# Altium footprint library All.PcbLib: 121 footprints (part 1 of 8)
Each footprint in its own frame and in the unit in brackets; x right, y up, seen from the top. Pads: shape width x height; smd on the part's side, far side on the other; paste and mask are expansions set on the pad; w line width, h text height; cw(c..) or ccw(c..) is an arc to the next point about the centre after c.
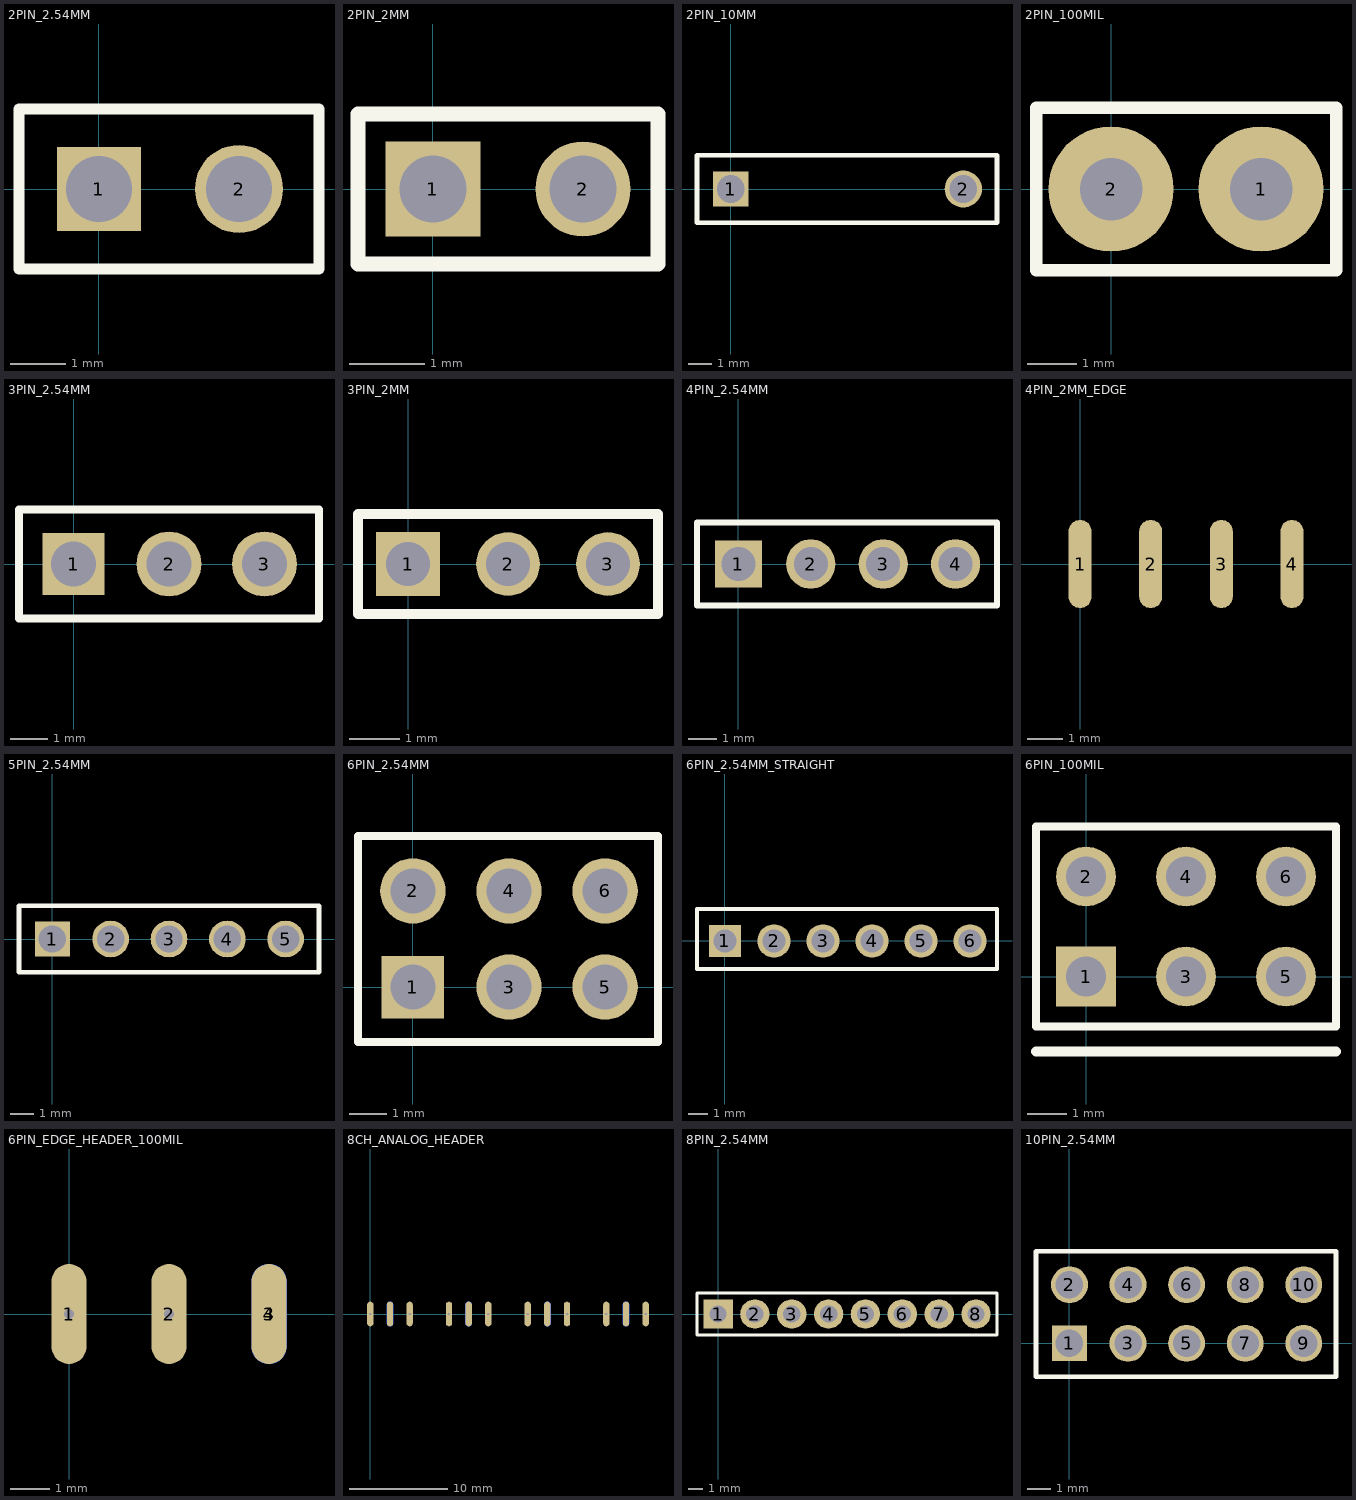
[diagram p0: the footprints below, top view; thin cyan lines are the x and y axes]

## 2PIN_2.54MM [mil]
pads (2):
  rect 60x60 hole 47: 1(0,0)
  round 63 hole 47: 2(100,0)
Top Overlay:
  lines w8: -57.13,-57.13 157.13,-57.13 157.13,57.13 -57.13,57.13 -57.13,-57.13

## 2PIN_2MM [mil]
pads (2):
  rect 50x50 hole 35: 1(0,0)
  round 50 hole 35: 2(78.74,0)
Top Overlay:
  lines w8: -39.37,-39.37 -39.37,39.37 118.11,39.37 118.11,-39.37 -39.37,-39.37

## 2PIN_10MM [mil]
pads (2):
  rect 60x60 hole 47: 1(0,0)
  round 63 hole 47: 2(393,0)
Top Overlay:
  lines w8: -57.13,-57.13 450,-57.13 450,57.13 -57.13,57.13 -57.13,-57.13

## 2PIN_100MIL [mil]
pads (2):
  round 100 hole 50: 1(120,0) 2(0,0)
Top Overlay:
  lines w10: -60,-65 -60,65 180,65 180,-65 -60,-65

## 3PIN_2.54MM [mil]
pads (3):
  rect 65x65 hole 47: 1(0,0)
  round 68 hole 47: 2(100,0) 3(200,0)
Top Overlay:
  lines w8: -57.13,-57.13 257.13,-57.13 257.13,57.13 -57.13,57.13 -57.13,-57.13

## 3PIN_2MM [mil]
pads (3):
  rect 50x50 hole 35: 1(0,0)
  round 50 hole 35: 2(78.74,0) 3(157.48,0)
Top Overlay:
  lines w8: -39.37,-39.37 -39.37,39.37 196.85,39.37 196.85,-39.37 -39.37,-39.37

## 4PIN_2.54MM [mil]
pads (4):
  rect 65x65 hole 47: 1(0,0)
  round 68 hole 47: 2(100,0) 3(200,0) 4(300,0)
Top Overlay:
  lines w8: -57.13,-57.13 -57.13,57.13 357.13,57.13 357.13,-57.13 -57.13,-57.13

## 4PIN_2MM_EDGE [mm]
pads (4):
  oval 0.65x2.5 smd: 1(0,0) 2(2,0) 3(4,0) 4(6,0)

## 5PIN_2.54MM [mil]
pads (5):
  rect 60x60 hole 47: 1(0,0)
  round 63 hole 47: 2(100,0) 3(200,0) 4(300,0) 5(400,0)
Top Overlay:
  lines w8: -57.13,-57.13 -57.13,57.13 457.13,57.13 457.13,-57.13 -57.13,-57.13

## 6PIN_2.54MM [mil]
pads (6):
  rect 65x65 hole 47: 1(0,0)
  round 68 hole 47: 2(0,100) 3(100,0) 4(100,100) 5(200,0) 6(200,100)
Top Overlay:
  lines w8: -57.13,-57.13 -57.13,157.13 255,157.13 255,-57.13 -57.13,-57.13

## 6PIN_2.54MM_STRAIGHT [mil]
pads (6):
  rect 65x65 hole 47: 1(0,0)
  round 68 hole 47: 2(100,0) 3(200,0) 4(300,0) 5(400,0) 6(500,0)
Top Overlay:
  lines w8: -57.13,-57.13 555,-57.13 555,65 -57.13,65 -57.13,-57.13

## 6PIN_100MIL [mil]
pads (6):
  rect 60x60 hole 40: 1(0,0)
  round 60 hole 40: 2(0,100) 3(100,0) 4(100,100) 5(200,0) 6(200,100)
Top Overlay:
  lines w8: -50,-50 -50,150 250,150 250,-50 -50,-50
  lines w10: -50,-75 250,-75

## 6PIN_EDGE_HEADER_100MIL [mil]
pads (4):
  oval 35x100 hole 10: 1(0,0) 2(100,0)
  oval 35x100 smd: 3(200,0)
  oval 35x100 smd far side: 4(200,0)

## 8CH_ANALOG_HEADER [mm]
pads (16):
  oval 0.65x2.5 hole 0.254: G1(0,0) G2(8,0) G3(16,0) G4(24,0) V1(4,0) V2(12,0) V3(20,0) V4(28,0)
  oval 0.65x2.5 smd: S1_A(2,0) S2_A(10,0) S3_A(18,0) S4_A(26,0)
  oval 0.65x2.5 smd far side: S1_B(2,0) S2_B(10,0) S3_B(18,0) S4_B(26,0)

## 8PIN_2.54MM [mil]
pads (8):
  rect 80x80 hole 47: 1(0,0)
  round 80 hole 47: 2(100,0) 3(200,0) 4(300,0) 5(400,0) 6(500,0) 7(600,0) 8(700,0)
Top Overlay:
  lines w8: -57.13,-57.13 757,-57.13 757,57.13 -57.13,57.13 -57.13,-57.13

## 10PIN_2.54MM [mil]
pads (10):
  rect 60x60 hole 47: 1(0,0)
  round 63 hole 47: 2(0,100) 3(100,0) 4(100,100) 5(200,0) 6(200,100) 7(300,0) 8(300,100) 9(400,0) 10(400,100)
Top Overlay:
  lines w8: -57.13,-57.13 455,-57.13 455,157.13 -57.13,157.13 -57.13,-57.13